# Altium footprint library My PcbLib.PcbLib: 3 footprints
Each footprint in its own frame and in the unit in brackets; x right, y up, seen from the top. Pads: shape width x height; smd on the part's side, far side on the other; paste and mask are expansions set on the pad; w line width, h text height; cw(c..) or ccw(c..) is an arc to the next point about the centre after c.
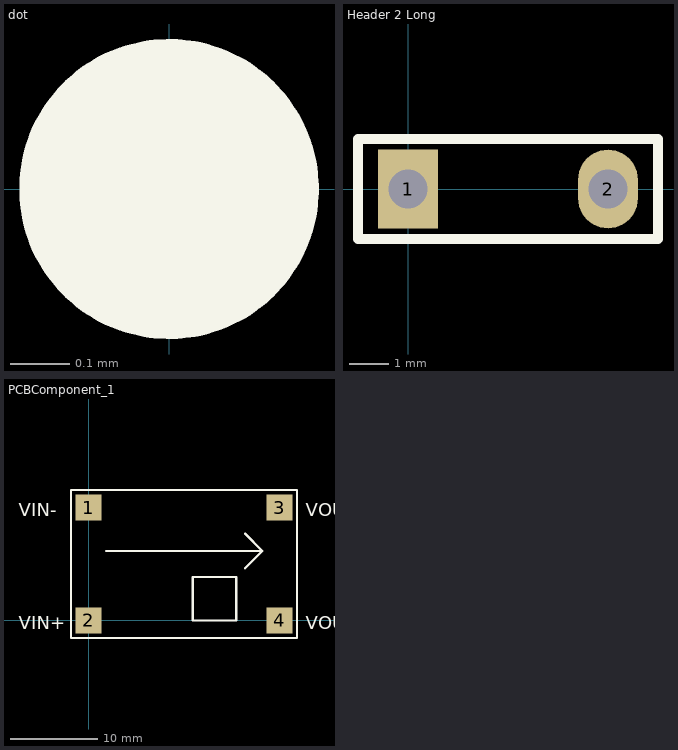
[diagram p0: the footprints below, top view; thin cyan lines are the x and y axes]

## dot [mm]
Top Overlay:
  circle w0.254: c0,0 r0.127

## Header 2 Long [mm]
pads (2):
  rect 1.524x2 hole 1: 1(0,0)
  oval 1.524x2 hole 1: 2(5.08,0)
Top Overlay:
  lines w0.254: -1.27,-1.27 -1.27,1.27 6.35,1.27 6.35,-1.27 -1.27,-1.27

## PCBComponent_1 [mm]
pads (4):
  rect 3x3 smd: 1(0,13) 2(0,0) 3(22,13) 4(22,0)
Top Overlay:
  lines w0.254: 2,8 20,8 ; 18,6 20,8 ; 18,10 20,8 ; -2,-2 24,-2 24,15 -2,15 -2,-2 ; 12,0 17,0 17,5 12,5 12,0
  text "VIN+" at -8,-1 h1.52
  text "VIN-" at -8,12 h1.52
  text "VOUT-" at 25,12 h1.52
  text "VOUT+" at 25,-1 h1.52